# EAGLE library part NMOS2 (library DISCRETE)
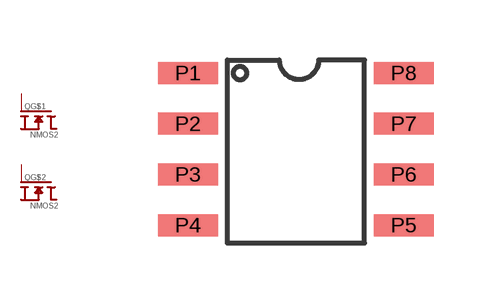
[diagram p0: symbol with the pads of SOIC-8; footprint SOIC-8]

Designator prefix Q; gates G$1=NMOS G$2=NMOS

## NMOS2DMN2029 (DIGIKEY: DMN2029USD-13DICT-ND; IMAX: 5.8A; VDS: 20V; VTH: 1.5V)  [SOIC-8]
P1  G$1:S
P2  G$1:G
P3  G$2:S
P4  G$2:G
P5  G$2:D
P6  G$2:D
P7  G$1:D
P8  G$1:D

## Footprint SOIC-8 (pad centres in mm)
smd 1.5 x 0.55: P1 -2.699,2.064; P2 -2.699,0.794; P3 -2.699,-0.476; P4 -2.699,-1.746; P5 2.701,-1.746; P6 2.701,-0.476; P7 2.701,0.794; P8 2.701,2.064